# Altium footprint library Train2.PCBLIB: 223 footprints (part 2 of 14)
Each footprint in its own frame and in the unit in brackets; x right, y up, seen from the top. Pads: shape width x height; smd on the part's side, far side on the other; paste and mask are expansions set on the pad; w line width, h text height; cw(c..) or ccw(c..) is an arc to the next point about the centre after c.
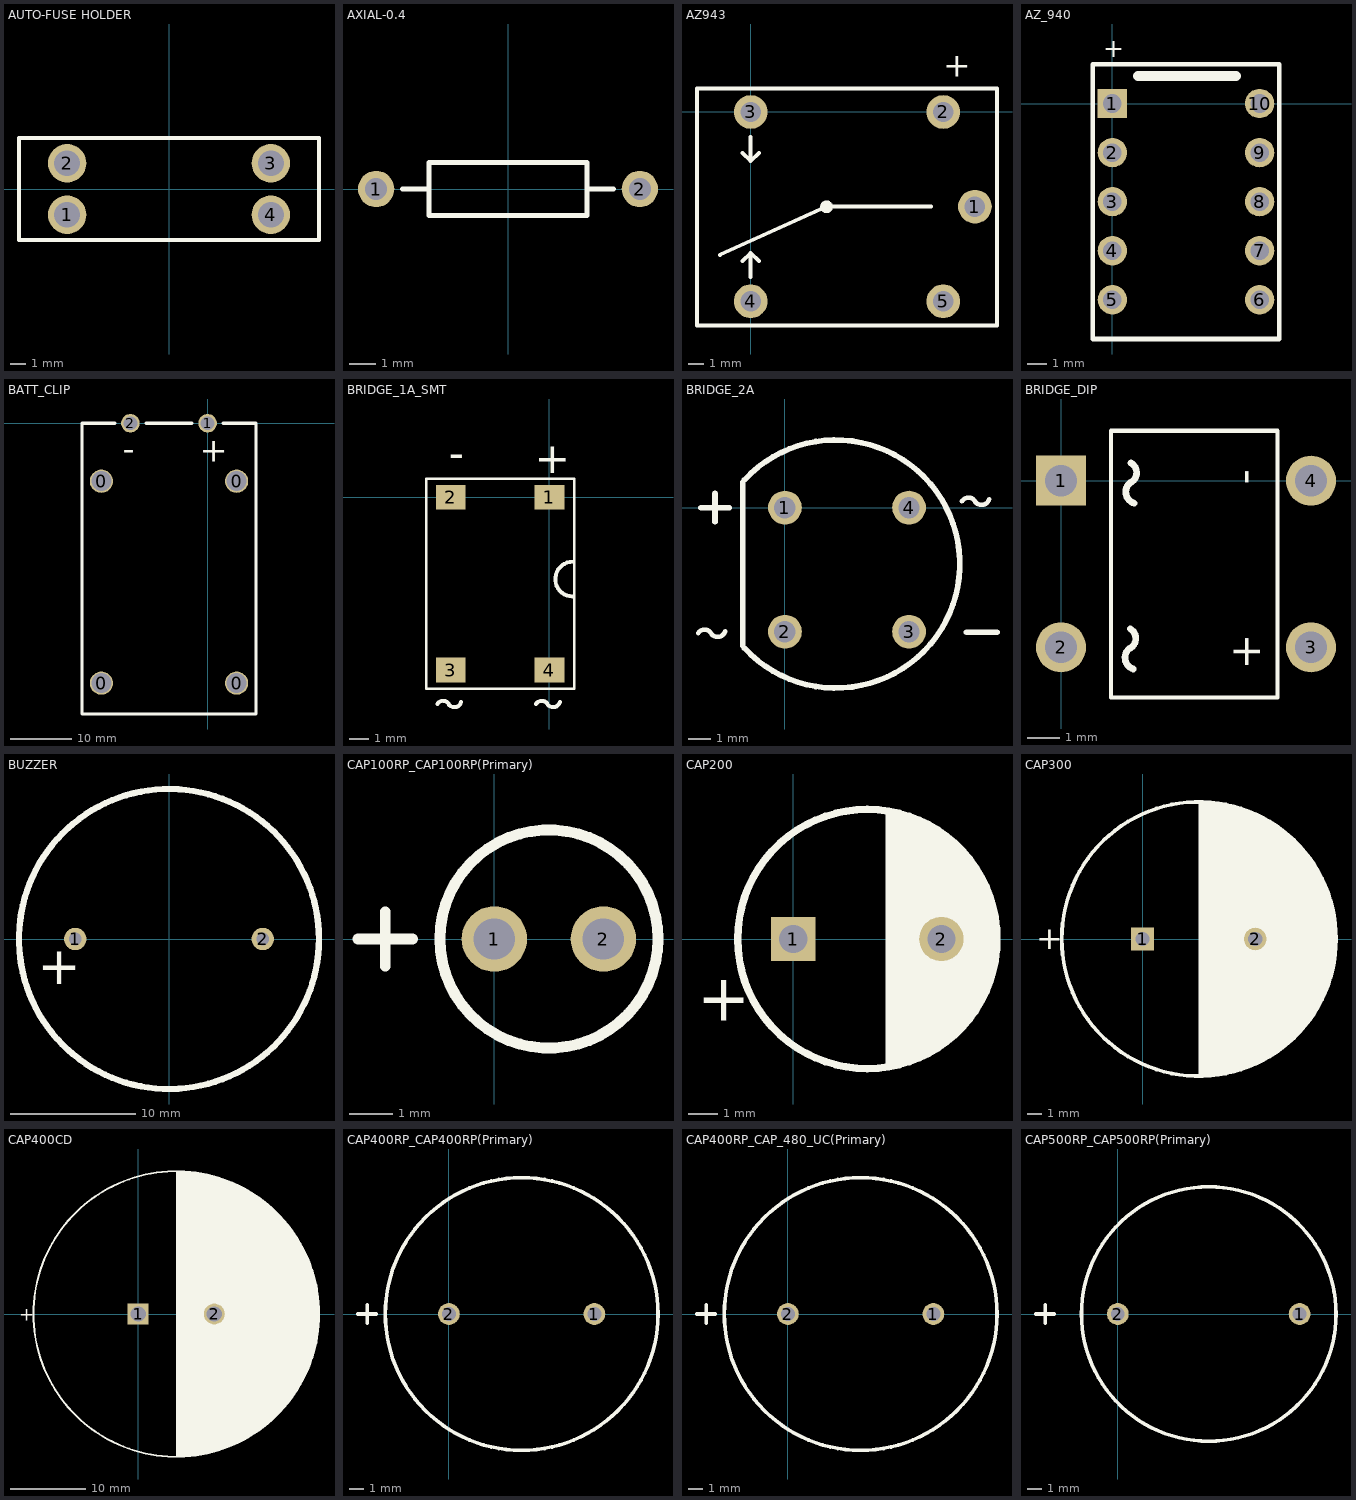
[diagram p1: the footprints below, top view; thin cyan lines are the x and y axes]

## AUTO-FUSE HOLDER [mil]
pads (4):
  round 100 hole 67: 1(-265,-67) 2(-265,67) 3(265,67) 4(265,-67)
Top Overlay:
  lines w10: -390,-132.5 390,-132.5 390,132.5 -390,132.5 -390,-132.5

## AXIAL-0.4 [mm] "Axial Device, Thru-Hole; 2 Leads; 0.4 in Pin Spacing"
height 2.032
pads (2):
  round 1.4 hole 0.85: 1(-5.08,0) 2(5.08,0)
Top Overlay:
  lines w0.2: -4.064,0 -3.048,0 ; 3.048,0 4.064,0 ; -3.048,-1.016 3.048,-1.016 3.048,1.016 -3.048,1.016 -3.048,-1.016
3D body "RESISTOR, 0.25 W, 0.4 IN LEAD PITCH.STEP": height 2.54, standoff -2.93, extent -5.359,-1.08 5.41,1.232

## AZ943 [mil]
pads (5):
  round 84 hole 51: 1(559,-236) 2(480,0) 3(0,0) 4(0,-472) 5(480,-472)
Top Overlay:
  circle w12: c189,-236.47 r10
  lines w10: -77.22,-356.07 187.65,-236 450,-236 ; -20,-372 0,-352 ; 0,-412 0,-352 ; 0,-62 0,-122 ; 20,-102 0,-122 ; 0,-352 20,-372 0,-352 ; 0,-122 -20,-102 0,-122 ; -134,-532 -134,58 614,58 614,-532 -134,-532
  text "+" at 480,88 h60

## AZ_940 [mil]
pads (10):
  rect 60x60 hole 38: 1(0,0)
  round 60 hole 38: 2(0,-100) 3(0,-200) 4(0,-300) 5(0,-400) 6(300,-400) 7(300,-300) 8(300,-200) 9(300,-100) 10(300,0)
Top Overlay:
  lines w10: -40,-480 340,-480 340,80 -40,80 -40,-480
  lines w20: 52,56 252,56
  text "+" at -19,94 h37.5

## BATT_CLIP [mil]
pads (6):
  round 150 hole 130: 0(-687.5,-1682) 0(-687.5,-375) 0(187.5,-1682) 0(187.5,-375)
  round 120 hole 90: 1(0,0) 2(-500,0)
Top Overlay:
  lines w20: -600,0 -812.5,0 -812.5,-1882 312.5,-1882 312.5,0 100,0 ; -400,0 -100,0
  text "-" at -550,-243.68 h158
  text "+" at -50,-250 h158

## BRIDGE_1A_SMT [mil]
pads (4):
  rect 60x50 smd: 1(0,0) 2(-200,0) 3(-200,-350) 4(0,-350)
Top Overlay:
  lines w5: -250,-387.5 -250,37.5 50,37.5 50,-387.5 -250,-387.5
  lines w8: -227.19,-418.94 cw(c-215.57,-425.63) -203.52,-419.78 ; -203.19,-420.48 ccw(c-192.58,-410.98) -178.96,-415.16 ; -27.19,-418.94 cw(c-15.57,-425.63) -3.52,-419.78 ; -3.19,-420.48 ccw(c7.42,-410.98) 21.04,-415.16 ; 46.7,-201 cw(c46.81,-165.86) 47,-130.72
  text "+" at -30,49 h62.5
  text "-" at -173,106 h62.5

## BRIDGE_2A [mil]
pads (4):
  round 60 hole 38: 1(0,0) 2(0,-220) 3(220,-220) 4(220,0)
Top Overlay:
  lines w8: -154.19,-222.94 cw(c-142.57,-229.63) -130.52,-223.78 ; -130.19,-224.48 ccw(c-119.58,-214.98) -105.96,-219.16 ; 313.81,11.06 cw(c325.43,4.37) 337.48,10.22 ; 337.81,9.52 ccw(c348.42,19.02) 362.04,14.84
  lines w10: -149,0 -99,0 ; -124,-25 -124,25 ; -75,-245 -75,45 ; -71.68,-249.2 ccw(c90,-100) -71.68,49.2 ; 322,-221 376,-221

## BRIDGE_DIP [mil]
pads (4):
  rect 60x60 hole 38: 1(0,0)
  round 60 hole 38: 2(0,-200) 3(300,-200) 4(300,0)
Top Overlay:
  lines w5: 60,-260 260,-260 260,60 60,60 60,-260
  lines w8: 81.52,-201.81 ccw(c91.02,-212.42) 86.84,-226.04 ; 82.22,-201.48 ccw(c76.37,-189.43) 83.06,-177.81 ; 82.52,-2.81 ccw(c92.02,-13.42) 87.84,-27.04 ; 83.22,-2.48 ccw(c77.37,9.57) 84.06,21.19
  text "+" at 207,-184 h37.5
  text "-" at 209,14 h37.5

## BUZZER [mm]
pads (2):
  round 1.8 hole 1 unplated: 1(-7.5,0) 2(7.5,0)
Top Overlay:
  circle w0.5: c0,0 r12
  text "+" at -10.5,-3.6 h3

## CAP100RP_CAP100RP(Primary) [mil]
pads (2):
  round 60 hole 38: 1(0,0) 2(100,0)
Top Overlay:
  circle w10: c50,0 r100
  lines w10: -125,0 -75,0 ; -100,-25 -100,25

## CAP200 [mil]
pads (2):
  rect 60x60 hole 38: 1(0,0)
  round 60 hole 38: 2(200,0)
Top Overlay:
  circle w10: c100,0 r175
  region: 125,175 125,-175 150,-170 180,-160 200,-140 225,-125 250,-100 260,-80 270,-50 275,-25 275,0 275,25 270,50 260,80 240,100 225,125 200,140 180,160 150,170
  text "+" at -129.92,-110.24 h62.5

## CAP300 [mil]
pads (2):
  rect 60x60 hole 38: 1(0,0)
  round 60 hole 38: 2(300,0)
Top Overlay:
  circle w10: c150,0 r365
  region: 150,365 150,-365 250,-355 355,-305 445,-220 480,-155 500,-115 510,-80 510,-55 515,-15 515,20 495,125 450,210 410,255 385,275 365,300 345,310 300,330 255,350 215,360 180,365
  text "+" at -283.46,-27.56 h62.5

## CAP400CD [mil]
pads (2):
  rect 110x110 hole 80: 1(0,0)
  round 110 hole 80: 2(400,0)
Top Overlay:
  circle w10: c200,0 r750
  region: 200,-750 335,-740 420,-720 485,-695 540,-670 600,-635 670,-585 715,-550 760,-500 800,-450 840,-395 875,-335 905,-250 920,-205 940,-150 950,-50 950,0 950,50 945,100 940,150 920,205 890,295 860,360 800,450 760,500 730,530 705,555 650,600 600,640 550,660 495,695 450,705 410,720 380,725 350,735 300,745 200,750
  text "+" at -625.98,-35.43 h68.9

## CAP400RP_CAP400RP(Primary) [mil]
pads (2):
  round 60 hole 38: 1(400,0) 2(0,0)
Top Overlay:
  circle w10: c200,0 r375
  lines w10: -250,0 -200,0 ; -225,-25 -225,25

## CAP400RP_CAP_480_UC(Primary) [mil]
pads (2):
  round 60 hole 38: 1(400,0) 2(0,0)
Top Overlay:
  circle w10: c200,0 r375
  lines w10: -250,0 -200,0 ; -225,-25 -225,25

## CAP500RP_CAP500RP(Primary) [mil]
pads (2):
  round 60 hole 38: 1(500,0) 2(0,0)
Top Overlay:
  circle w10: c250,0 r350
  lines w10: -225,0 -175,0 ; -200,-25 -200,25